# Altium schematic symbol library connector.SchLib: 18 symbols
Pins are listed as number, name and electrical type; pins without a type are passive.

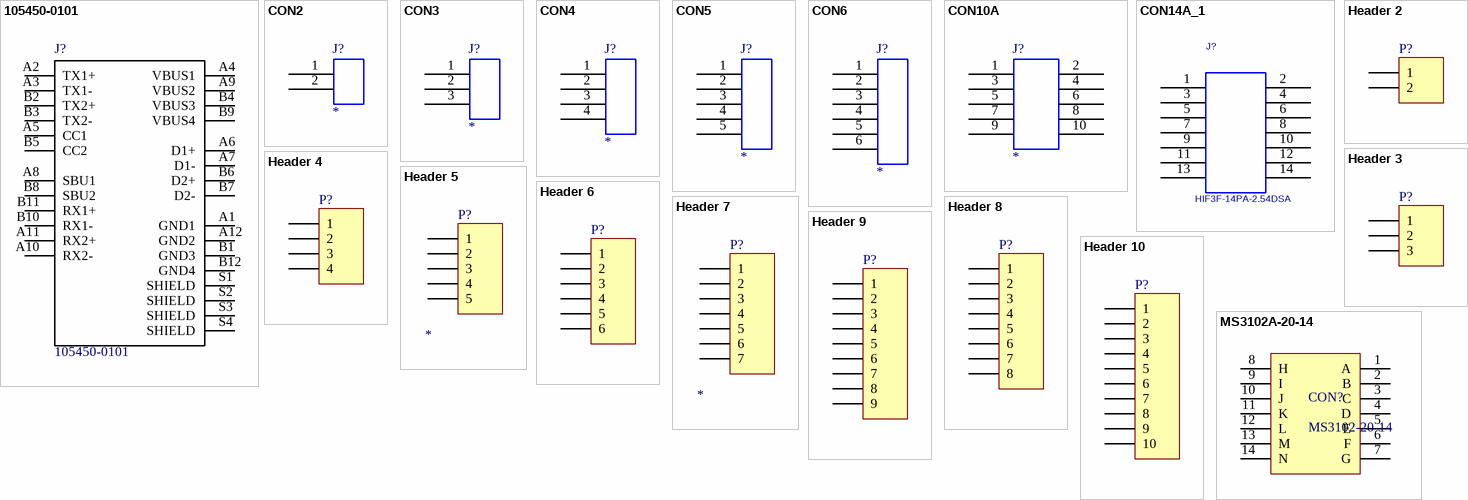
[diagram p0: symbols 105450-0101 to MS3102A-20-14]

## 105450-0101
designator J?
USB Shielded I/O Receptacle; Type C; Right Angle; Surface Mount; Gold over Nickel; MP: 1054500101; MF: Molex; Digi-Key_Purchase_URL: https://www.digikey.kr/product-detail/en/molex/1054500101/WM12856CT-ND/5843891?utm_source=snapeda&utm_medium=aggregator&utm_campaign=symbol; Package: None; SnapEDA_Link: https://www.snapeda.com/parts/1054500101/Molex/view-part/?ref=snap; Digi-Key_Part_Number: WM12856CT-ND; Value: *; Manufacturer: Molex; Part Number: 1054500101
footprint MOLEX_105450-0101_105450-0101(Primary)
pins: A1 GND1, A2 TX1+, A3 TX1-, A4 VBUS1, A5 CC1, A6 D1+, A7 D1-, A8 SBU1, A9 VBUS2, A10 RX2-, A11 RX2+, A12 GND2, B1 GND3, B2 TX2+, B3 TX2-, B4 VBUS3, B5 CC2, B6 D2+, B7 D2-, B8 SBU2, B9 VBUS4, B10 RX1-, B11 RX1+, B12 GND4, S1 SHIELD, S2 SHIELD, S3 SHIELD, S4 SHIELD

## CON2
designator J?
OriginalSymbolOrigin: (0,0)
footprint SMW250-02P
pins: 1, 2

## CON3
designator J?
OriginalSymbolOrigin: (0,0)
footprint SMW250-03P
pins: 1, 2, 3

## CON4
designator J?
OriginalSymbolOrigin: (0,0)
footprint SMW250-04P
pins: 1, 2, 3, 4

## CON5
designator J?
OriginalSymbolOrigin: (0,0)
footprint SMW250-05P
pins: 1, 2, 3, 4, 5

## CON6
designator J?
OriginalSymbolOrigin: (0,0)
footprint SMW250-06P
pins: 1, 2, 3, 4, 5, 6

## CON10A
designator J?
OriginalSymbolOrigin: (0,0)
footprint HIF3F-10PA-2.54DSA
pins: 1, 2, 3, 4, 5, 6, 7, 8, 9, 10

## CON14A_1
designator J?, comment HIF3F-14PA-2.54DSA
OriginalSymbolOrigin: (0,0)
footprint HIF3F-14PA-2.54DSA
pins: 1, 2, 3, 4, 5, 6, 7, 8, 9, 10, 11, 12, 13, 14

## Header 2
designator P?
Header, 2-Pin; LatestRevisionDate: 17-Jul-2002; LatestRevisionNote: Re-released for DXP Platform.; Publisher: Altium Limited; Part Number: *; Manufacturer: *
footprint HDR1X2 (Connector; Header; 2 Position)
signal-integrity model Connector
footprint SMW 250-02P
pins: 1, 2

## Header 3
designator P?
Header, 3-Pin; LatestRevisionDate: 17-Jul-2002; LatestRevisionNote: Re-released for DXP Platform.; Publisher: Altium Limited; Part Number: *; Manufacturer: *
footprint HDR1X3 (Connector; Header; 3 Position)
signal-integrity model Connector
footprint SMW 250-03P
pins: 1, 2, 3

## Header 4
designator P?
Header, 4-Pin; LatestRevisionDate: 17-Jul-2002; LatestRevisionNote: Re-released for DXP Platform.; Publisher: Altium Limited; Part Number: *; Manufacturer: *
footprint HDR1X4 (Connector; Header; 4 Position)
signal-integrity model Connector
footprint SMW 250-04P
pins: 1, 2, 3, 4

## Header 5
designator P?
Header, 5-Pin; LatestRevisionDate: 17-Jul-2002; LatestRevisionNote: Re-released for DXP Platform.; Publisher: Altium Limited; Part Number: *; Manufacturer: *
footprint HDR1X5 (Connector; Header; 5 Position)
signal-integrity model Connector
pins: 1, 2, 3, 4, 5

## Header 6
designator P?
Header, 6-Pin; LatestRevisionDate: 17-Jul-2002; LatestRevisionNote: Re-released for DXP Platform.; Publisher: Altium Limited; Part Number: *; Manufacturer: *
footprint HDR1X6 (Connector; Header; 6 Position)
signal-integrity model Connector
pins: 1, 2, 3, 4, 5, 6

## Header 7
designator P?
Header, 7-Pin; LatestRevisionDate: 17-Jul-2002; LatestRevisionNote: Re-released for DXP Platform.; Publisher: Altium Limited; Part Number: *; Manufacturer: *
footprint HDR1X7 (Connector; Header; 7 Position)
signal-integrity model Connector
pins: 1, 2, 3, 4, 5, 6, 7

## Header 8
designator P?
Header, 8-Pin; LatestRevisionDate: 17-Jul-2002; LatestRevisionNote: Re-released for DXP Platform.; Publisher: Altium Limited; Part Number: *; Manufacturer: *
footprint HDR1X8 (Connector; Header; 8 Position)
signal-integrity model Connector
pins: 1, 2, 3, 4, 5, 6, 7, 8

## Header 9
designator P?
Header, 9-Pin; LatestRevisionDate: 17-Jul-2002; LatestRevisionNote: Re-released for DXP Platform.; Publisher: Altium Limited; Part Number: *; Manufacturer: *
footprint HDR1X9 (Connector; Header; 9 Position)
signal-integrity model Connector
pins: 1, 2, 3, 4, 5, 6, 7, 8, 9

## Header 10
designator P?
Header, 10-Pin; LatestRevisionDate: 17-Jul-2002; LatestRevisionNote: Re-released for DXP Platform.; Publisher: Altium Limited; Part Number: *; Manufacturer: *
footprint HDR1X10 (Connector; Header; 10 Position)
signal-integrity model Connector
pins: 1, 2, 3, 4, 5, 6, 7, 8, 9, 10

## MS3102A-20-14
designator CON?, comment MS3102-20-14
pins: 1 A, 2 B, 3 C, 4 D, 5 E, 6 F, 7 G, 8 H, 9 I, 10 J, 11 K, 12 L, 13 M, 14 N